# EAGLE library part 39-28-8060 (library 39-28-8060)
Mini-Fit Jr. Vertical Header, 4.20mm Pitch, Dual Row, 2 Circuits, without Snap-in Plastic Peg PCB Lock, Tin, Natural Source: Datasheet <https://www.molex.com/pdm_docs/sd/039281023_sd.pdf>
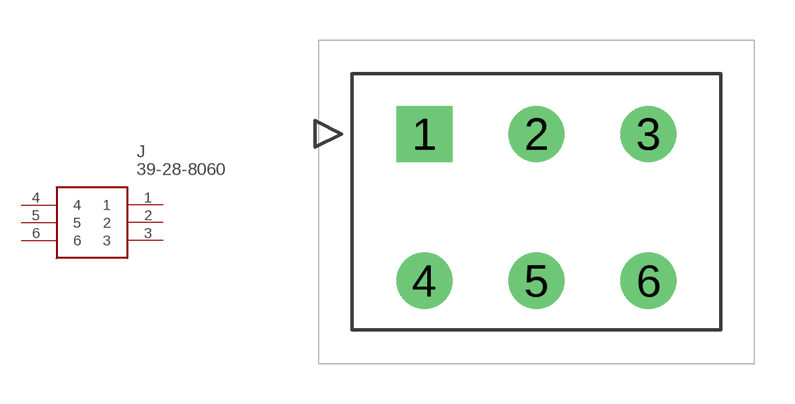
[diagram p0: symbol with the pads of 39-28-8060; footprint 39-28-8060]

Designator prefix J

## 39-28-8060 (Description: Mini-Fit Jr. Vertical Header, 4.20mm Pitch, Dual Row, 2 Circuits, without Snap-in Plastic Peg PCB Lock, Tin, Natural; Height: 12.8mm; Manufacturer_Name: Molex; Manufacturer_Part_Number: 39-28-8060; Mouser_Part_Number: 538-39-28-8060; Mouser_Price-Stock: https://www.mouser.co.uk/ProductDetail/Molex/39-28-8060?qs=9PkijCQ%2Fg7Z8JAXeObyJXQ%3D%3D)  [39-28-8060]
1  1
2  2
3  3
4  4
5  5
6  6

## Footprint 39-28-8060 (pad centres in mm)
39-28-8060
drill 1.4 pad 1.75 square: 1 0,0
drill 1.4 pad 1.75: 2 4.2,0; 3 8.4,0; 4 0,-5.5; 5 4.2,-5.5; 6 8.4,-5.5